# EAGLE library part 3V4 (library jaapie)
Directly heated 7-pin battery power tube
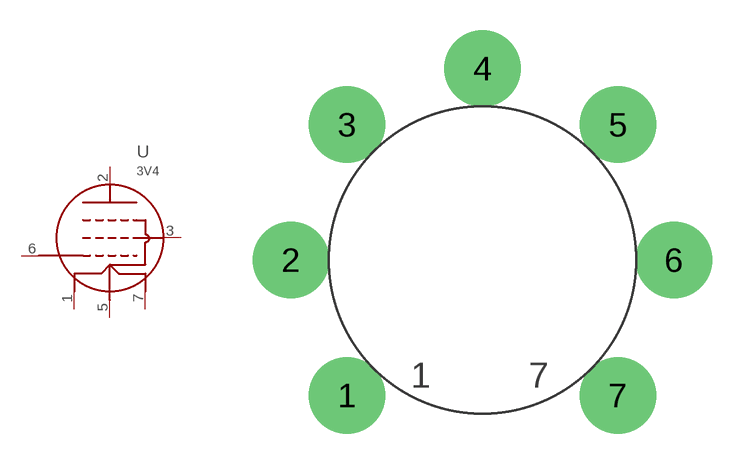
[diagram p5: symbol with the pads of 7PINTUBE; footprint 7PINTUBE]

Designator prefix -

## 3V4  [7PINTUBE]
1  HEATER-  pas
2  PLATE  pas
3  SCREEN  pas
5  HEATER-CT  pas
6  GRID  pas
7  HEATER+  pas

## Footprint 7PINTUBE (pad centres in mm)
7-pin Miniature tube socket, viewed from bottom
drill 1.93 pad 3.81: 1 -6.731,-6.731; 2 -9.525,0; 3 -6.731,6.731; 4 0,9.525; 5 6.731,6.731; 6 9.525,0; 7 6.731,-6.731